# EAGLE library part FC-113 (library brakujace_alarm)
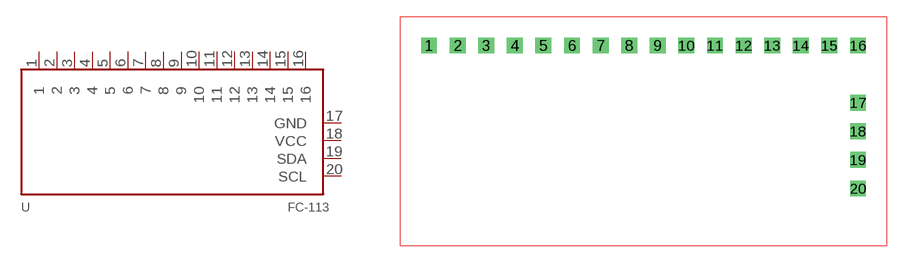
[diagram p0: symbol with the pads of FC-113; footprint FC-113]

Designator prefix -

## FC-113  [FC-113]
1  1  pwr
2  2  pwr
3  3
4  4
5  5
6  6
7  7
8  8
9  9
10  10
11  11
12  12
13  13
14  14
15  15  nc
16  16  nc
17  GND
18  VCC
19  SDA
20  SCL

## Footprint FC-113 (pad centres in mm)
drill 0.9 square: 1 -20.32,7.62; 2 -17.78,7.62; 3 -15.24,7.62; 4 -12.7,7.62; 5 -10.16,7.62; 6 -7.62,7.62; 7 -5.08,7.62; 8 -2.54,7.62; 9 0,7.62; 10 2.54,7.62; 11 5.08,7.62; 12 7.62,7.62; 13 10.16,7.62; 14 12.7,7.62; 15 15.24,7.62; 16 17.78,7.62; 17 17.78,2.54; 18 17.78,0; 19 17.78,-2.54; 20 17.78,-5.08